# Altium footprint library Footprints.PcbLib: 31 footprints (part 2 of 2)
Each footprint in its own frame and in the unit in brackets; x right, y up, seen from the top. Pads: shape width x height; smd on the part's side, far side on the other; paste and mask are expansions set on the pad; w line width, h text height; cw(c..) or ccw(c..) is an arc to the next point about the centre after c.
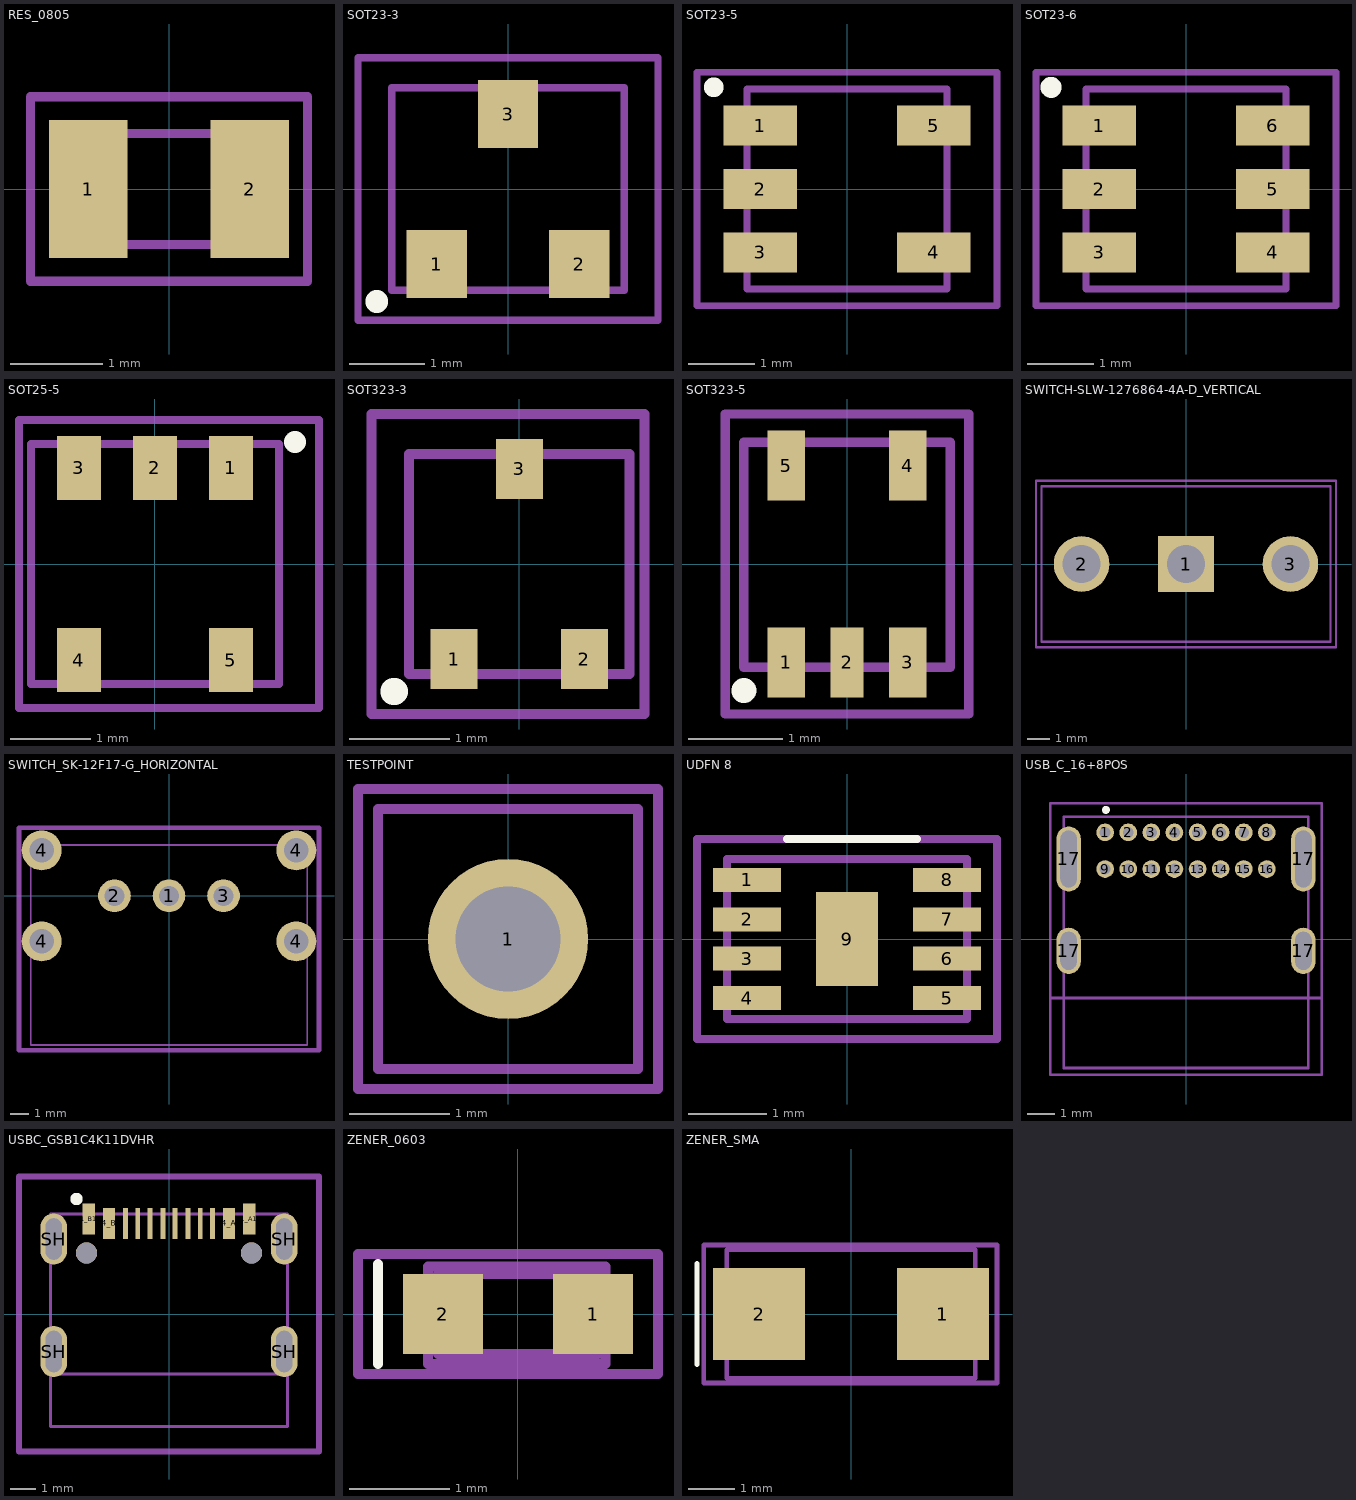
[diagram p1: the footprints below, top view; thin cyan lines are the x and y axes]

## RES_0805 [mm]
pads (2):
  rect 0.85x1.5 smd: 1(-0.875,0) 2(0.875,0)
Top Assembly:
  lines w0.1: -1,-0.6 1,-0.6 1,0.6 -1,0.6 -1,-0.6
  text ".Designator" at -0.95,-0.083 h0.2
Top Courtyard:
  lines w0.1: -1.5,-1 -1.5,1 ; -1.5,-1 1.5,-1 ; -1.5,-1 -1.5,1 ; -1.5,-1 1.5,-1 ; -1.5,1 -1,1 1.5,1 ; -1.5,1 0,1 1.5,1 ; 1.5,-1 1.5,1 ; 1.5,-1 1.5,1
3D body: height 0.5, standoff 0, extent -0.6,-0.6 0.6,0.6
3D body: height 0.5, standoff 0, extent 0.6,-0.6 1,0.6
3D body: height 0.5, standoff 0, extent -1,-0.6 -0.6,0.6

## SOT23-3 [mm]
pads (3):
  rect 0.8x0.9 smd: 1(-0.95,-1) 2(0.95,-1) 3(0,1)
Top Overlay:
  circle w0.254: c-1.75,-1.5 r0.025
Top Assembly:
  lines w0.1: -1.55,-1.35 -1.55,1.35 1.55,1.35 1.55,-1.35 -1.55,-1.35
  text ".Designator" at -1.2,-0.117 h0.25
Top Courtyard:
  lines w0.1: -2,-1.75 -2,1.75 2,1.75 2,-1.75 -2,-1.75
3D body "SOT-23_MCC.step": height 1.22, standoff 0, extent -1.524,-1.321 1.524,1.321

## SOT23-5 [mm]
pads (5):
  rect 1.1x0.6 smd: 1(-1.3,0.95) 2(-1.3,0) 3(-1.3,-0.95) 4(1.3,-0.95) 5(1.3,0.95)
Top Overlay:
  circle w0.254: c-2,1.525 r0.02
Top Assembly:
  lines w0.1: -1.5,-1.5 1.5,-1.5 1.5,1.5 -1.5,1.5 -1.5,-1.5
  text ".Designator" at -0.95,-0.633 h0.2
Top Courtyard:
  lines w0.1: -2.25,-1.75 2.25,-1.75 2.25,1.75 -2.25,1.75 -2.25,-1.75
3D body "SN74LVC1G08DBVR.step": height 1.45, standoff 0, extent -1.4,-1.45 1.4,1.45

## SOT23-6 [mm]
pads (6):
  rect 1.1x0.6 smd: 1(-1.3,0.95) 2(-1.3,0) 3(-1.3,-0.95) 4(1.3,-0.95) 5(1.3,0) 6(1.3,0.95)
Top Overlay:
  circle w0.254: c-2.025,1.525 r0.03
Top Assembly:
  lines w0.1: -1.5,-1.5 1.5,-1.5 1.5,1.5 -1.5,1.5 -1.5,-1.5
  text ".Designator" at -0.95,0.367 h0.2
Top Courtyard:
  lines w0.1: -2.25,-1.75 -2.25,1.75 2.25,1.75 2.25,-1.75 -2.25,-1.75
3D body "DBV0006A.stp": height 1.2, standoff 0, extent -1.4,-1.45 1.4,1.45

## SOT25-5 [mm]
pads (5):
  rect 0.55x0.8 smd: 1(0.95,1.2) 2(0,1.2) 3(-0.95,1.2) 4(-0.95,-1.2) 5(0.95,-1.2)
Top Overlay:
  circle w0.254: c1.75,1.525 r0.01
Top Assembly:
  lines w0.1: -1.55,-1.5 -1.55,1.5 1.55,1.5 1.55,-1.5 -1.55,-1.5
  text ".Designator" at -0.95,-0.383 h0.2
Top Courtyard:
  lines w0.1: -1.7,-1.8 2.05,-1.8 2.05,-0.9 2.05,0.9 2.05,1.8 -1.7,1.8 -1.7,-1.8
3D body "SOT25_DIO.step": height 1.45, standoff 0, extent -1.55,-1.5 1.55,1.5

## SOT323-3 [mm]
pads (3):
  rect 0.47x0.6 smd: 1(-0.65,-0.95) 2(0.65,-0.95) 3(0,0.95)
Top Overlay:
  circle w0.254: c-1.25,-1.275 r0.01
Top Assembly:
  lines w0.1: -1.1,-1.1 1.1,-1.1 1.1,1.1 -1.1,1.1 -1.1,-1.1
  text ".Designator" at -1,-0.083 h0.2
Top Courtyard:
  lines w0.1: -1.475,-1.5 -1.475,1.5 1.25,1.5 1.25,-1.5 -1.475,-1.5
3D body "DIODE3_DMP32D4SW-7_DIO.step": height 1.09, standoff 0, extent -1.105,-1.1 1.105,1.1

## SOT323-5 [mm]
pads (5):
  rect 0.4x0.75 smd: 1(-0.65,-1.05) 3(0.65,-1.05) 4(0.65,1.05) 5(-0.65,1.05)
  rect 0.35x0.75 smd: 2(0,-1.05)
Top Overlay:
  circle w0.254: c-1.1,-1.35 r0.005
Top Assembly:
  lines w0.1: -1.1,-1.1 1.1,-1.1 1.1,1.3 -1.1,1.3 -1.1,-1.1
  text ".Designator" at -1,-0.058 h0.2
Top Courtyard:
  lines w0.1: -1.3,-1.6 1.3,-1.6 1.3,1.6 -1.3,1.6 -1.3,-1.6
3D body "U_SOT323-5L_STM.step": height 1.09, standoff 0, extent -1.105,-1.094 1.105,1.294

## SWITCH-SLW-1276864-4A-D_VERTICAL [mm]
pads (3):
  rect 2.5x2.5 hole 1.7: 1(0,0)
  round 2.5 hole 1.7: 2(-4.7,0) 3(4.7,0)
Top Assembly:
  lines w0.1: -6.5,-3.5 -6.5,3.5 6.5,3.5 6.5,-3.5 -6.5,-3.5
  text ".Designator" at -5.246,1.871 h1.1
Top Courtyard:
  lines w0.1: -6.75,-3.75 6.75,-3.75 6.75,3.75 -6.75,3.75 -6.75,-3.75
3D body "SLW-1276864-4A-D.stp": height 12.1, standoff -5.1, extent -6.35,-3.4 6.35,3.4

## SWITCH_SK-12F17-G_HORIZONTAL [mm]
pads (7):
  round 1.8 hole 1.1: 1(0,0) 2(-3,0) 3(3,0)
  round 2.2 hole 1.35: 4(-7,-2.5) 4(-7,2.5) 4(7,-2.5) 4(7,2.5)
Top Assembly:
  lines w0.1: -7.6,-8.2 -7.6,2.8 7.6,2.8 7.6,-8.2 -7.6,-8.2
  text ".Designator" at -6.546,-5.513 h1.3
Top Courtyard:
  lines w0.254: -8.25,-8.5 8.25,-8.5 8.25,3.75 -8.25,3.75 -8.25,-8.5
3D body "SK12F17G7.stp": height 8.07, standoff -3.26, extent -7.56,-8.171 7.56,2.8

## TESTPOINT [mm]
pads (1):
  round 1.6 hole 1.05: 1(0,0)
Top Assembly:
  lines w0.1: -1.3,-1.3 1.3,-1.3 1.3,1.3 -1.3,1.3 -1.3,-1.3
  text ".Designator" at -1.05,1.017 h0.2
Top Courtyard:
  lines w0.1: -1.5,-1.5 -1.5,1.5 1.5,1.5 1.5,-1.5 -1.5,-1.5
3D body "5002.step": height 4.57, standoff -3.05, extent -1.27,-1.27 1.27,1.27

## UDFN 8 [mil]
pads (9):
  rect 34x12 smd mask+0.79: 1(-50,29.53) 2(-50,9.84) 3(-50,-9.84) 4(-50,-29.53) 5(50,-29.53) 6(50,-9.84) 7(50,9.84) 8(50,29.53)
  rect 31x47 smd: 9(0,0)
Top Overlay:
  lines w3.94: -30,50 35,50
Top Assembly:
  lines w3.94: -60,-40 -60,40 60,40 60,-40 -60,-40
Top Courtyard:
  lines w3.94: -75,-50 -75,50 75,50 75,-50 -75,-50
3D body "UDFN8_2x3MC_MCH.step": height 18.74, standoff 0, extent -60.04,-40.35 60.04,40.35

## USB_C_16+8POS [mm]
pads (20):
  round 0.65 hole 0.4: 1(-2.976,3.925) 2(-2.126,3.925) 3(-1.276,3.925) 4(-0.426,3.925) 5(0.425,3.925) 6(1.275,3.925) 7(2.126,3.925) 8(2.976,3.925) 9(-2.976,2.575) 10(-2.126,2.575) 11(-1.276,2.575) 12(-0.426,2.575) 13(0.426,2.575) 14(1.276,2.575) 15(2.126,2.575) 16(2.976,2.575)
  oval 0.9x1.7 hole 0.6 slot 1.4 at 90 deg: 17(-4.32,-0.435) 17(4.32,-0.435)
  oval 0.9x2.4 hole 0.6 slot 2.1 at 90 deg: 17(-4.32,2.945) 17(4.32,2.945)
Top Overlay:
  circle w0.254: c-2.95,4.75 r0.02
Top Assembly:
  lines w0.1: -5,-2.175 5,-2.175 ; -4.5,-4.75 4.5,-4.75 4.5,4.5 -4.5,4.5 -4.5,-4.75
  text ".Designator" at -3.15,0.05 h0.6
  text "PCB Edge" at -1.15,-2.05 h0.3
Top Courtyard:
  lines w0.1: -5,-5 5,-5 5,5 -5,5 -5,-5
3D body "usb4085-gf-a.stp": height 3.47, standoff -2.09, extent -4.47,-4.67 4.47,4.5

## USBC_GSB1C4K11DVHR [mm]
height 6.63
pads (18):
  rect 0.5x1.25 smd mask+0.05: A1_B12(-3.2,3.8) A4_B9(-2.4,3.625) B1_A12(3.2,3.8) B4_A9(2.4,3.625)
  rect 0.2x1.25 smd mask+0.05: A5(-1.25,3.625) A6(-0.25,3.625) A7(0.25,3.625) A8(1.25,3.625) B5(1.75,3.625) B6(0.75,3.625) B7(-0.75,3.625) B8(-1.75,3.625)
  oval 1.05x2.05 hole 0.65 slot 1.65 at 90 deg: SH(-4.61,-1.5) SH(-4.61,3) SH(4.61,-1.5) SH(4.61,3)
  round 0.85 hole 0.85 unplated: ""(-3.3,2.44) ""(3.3,2.44)
Top Overlay:
  circle w0.3: c-3.7,4.6 r0.1
Top Assembly:
  lines w0.127: 4.75,-2.4 -4.735,-2.4 ; -4.735,-2.4 -4.735,-4.5 4.735,-4.5 4.735,4 -4.735,4 -4.735,-2.4
  text "PCB Edge" at -3,-2 h0.81
Top Courtyard:
  lines w0.254: -6,-5.5 6,-5.5 6,5.5 3,5.5 -3,5.5 -6,5.5 -6,-5.5
3D body "step_temp.STEP": height 6.69, standoff -1.27, extent -4.735,-4.4 4.735,4

## ZENER_0603 [mm]
pads (2):
  rect 0.8x0.8 smd: 1(0.75,0) 2(-0.75,0)
Top Overlay:
  lines w0.1: -1.4,-0.5 -1.4,0.5
Top Assembly:
  lines w0.1: -0.9,-0.5 -0.9,0.475 0.875,0.475 0.875,-0.5 -0.9,-0.5 ; -0.8,-0.4 0.8,-0.4 0.8,0.4 -0.8,0.4 -0.8,-0.4
  text ".Designator" at -0.48,-0.047 h0.1
Top Courtyard:
  lines w0.1: -1.6,-0.6 -1.6,-0.3 -1.6,0.3 -1.6,0.6 1.4,0.6 1.4,-0.6 -1.6,-0.6
3D body "CZRU.step": height 0.84, standoff 0, extent -0.902,-0.495 0.902,0.495

## ZENER_SMA [mm]
pads (2):
  rect 2x2 smd: 1(2,0) 2(-2,0)
Top Overlay:
  lines w0.1: -3.35,-1.1 -3.35,1.1
Top Assembly:
  lines w0.1: -2.7,-1.4 -2.7,1.4 2.7,1.4 2.7,-1.4 -2.7,-1.4
  text ".Designator" at -2.15,0.083 h0.4
  text ".Designator" at -0.48,-0.047 h0.1
Top Courtyard:
  lines w0.1: -3.2,-1.5 -3.2,1.5 3.175,1.5 3.175,-1.5 -3.2,-1.5
3D body "1SMA5918BT3G.STEP": height 2.21, standoff 0, extent -2.603,-1.308 2.603,1.308